# EAGLE library part MOLEX-47219-2001 (library molex-sd)
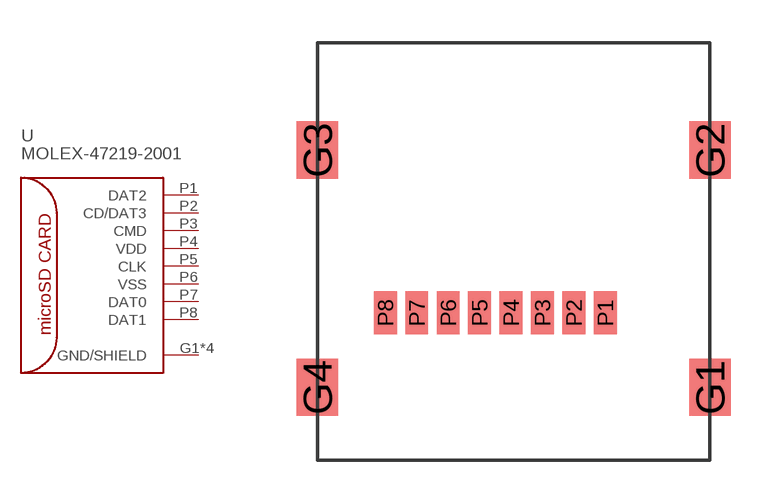
[diagram p0: symbol with the pads of MOLEX:47219-2001; footprint MOLEX:47219-2001]

Designator prefix -

## MOLEX-47219-2001  [MOLEX:47219-2001]
G1  GND/SHIELD  pas
G2  GND/SHIELD  pas
G3  GND/SHIELD  pas
G4  GND/SHIELD  pas
P1  DAT2
P2  CD/DAT3
P3  CMD
P4  VDD
P5  CLK
P6  VSS
P7  DAT0
P8  DAT1

## Footprint MOLEX:47219-2001 (pad centres in mm)
smd 1.45 x 2: G1 13.75,0; G2 13.75,8.3; G3 0,8.3; G4 0,0
smd 0.8 x 1.5: P1 10.08,2.6; P2 8.98,2.6; P3 7.88,2.6; P4 6.78,2.6; P5 5.68,2.6; P6 4.58,2.6; P7 3.48,2.6; P8 2.38,2.6